# Altium footprint library SnapEDApcb.PcbLib: 1 footprints
Each footprint in its own frame and in the unit in brackets; x right, y up, seen from the top. Pads: shape width x height; smd on the part's side, far side on the other; paste and mask are expansions set on the pad; w line width, h text height; cw(c..) or ccw(c..) is an arc to the next point about the centre after c.
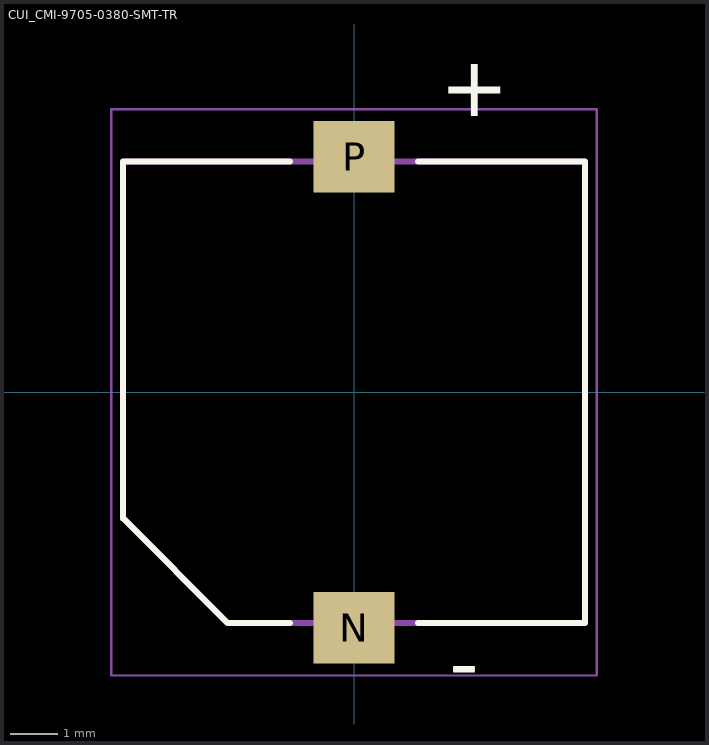
[diagram p0: the footprint, top view; thin cyan lines are the x and y axes]

## CUI_CMI-9705-0380-SMT-TR [mm]
pads (2):
  rect 1.7x1.5 smd: N(0,-4.95) P(0,4.95)
Top Overlay:
  lines w0.127: -1.35,-4.85 -2.65,-4.85 -4.85,-2.65 -4.85,4.85 -1.35,4.85 ; 1.34,4.85 4.85,4.85 4.85,-4.85 1.35,-4.85
  text "-" at 2,-6.3 h1.27
  text "+" at 1.8,5.8 h1.27
Mechanical 13:
  lines w0.127: -4.85,-2.65 -2.65,-4.85 4.85,-4.85 4.85,4.85 -4.85,4.85 -4.85,-2.65
  text "-" at 2,-6.3 h1.27
  text "+" at 1.8,5.8 h1.27
Mechanical 15:
  lines w0.05: -5.1,-5.95 -5.1,5.95 5.1,5.95 5.1,-5.95 -5.1,-5.95
3D body "CUI_DEVICES_CMI-9705-0380-SMT-TR.step": height 5.21, standoff 0.01, extent -4.85,-5.05 4.85,5.05